# EAGLE library part SX1301 (library IC_Wireless-RF)
SX1301 - Digital Baseband Chip for outdoor LoRaWAN Datasheet <https://semtech.my.salesforce.com/sfc/p/#E0000000JelG/a/44000000MDnR/Et1KWLCuNDI6MDagfSPAvqqp.Y869Flgs1LleWyfjDY> Product Page <https://www.semtech.com/products/wireless-rf/lora-core/sx1301>
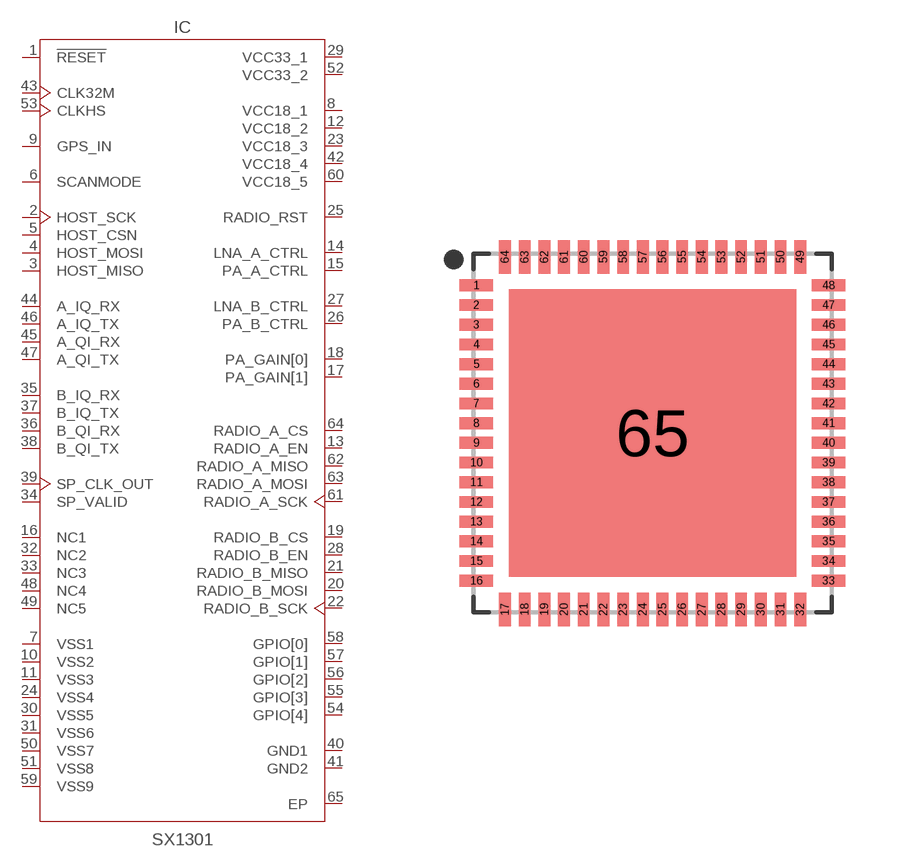
[diagram p0: symbol with the pads of QFN50P900X900X100-65T730; footprint QFN50P900X900X100-65T730]

Designator prefix IC

## SX1301IMLTRC (CATEGORY: IC_Wireless-RF; DESCRIPTION: IC DIGITAL BASEBAND LORA; FREQUENCY: 868MHz; MANUFACTURER: Semtech; MPN: SX1301IMLTRC; OPERATING_TEMP: -40°C to 85°C; PART_STATUS: Active; SERIES: SX1301; SUB-CATEGORY: Transceiver; TYPE: LoRa Core™; VALUE: SX1301), SX1301IMLTRT (CATEGORY: IC_Wireless-RF; DESCRIPTION: IC DIGITAL BASEBAND LORA; FREQUENCY: 868MHz; MANUFACTURER: Semtech; MPN: SX1301IMLTRT; OPERATING_TEMP: -40°C to 85°C; PART_STATUS: Active; SERIES: SX1301; SUB-CATEGORY: Transceiver; TYPE: LoRa Core™; VALUE: SX1301)  [QFN50P900X900X100-65T730]
1  !RESET!  in
2  HOST_SCK  in
3  HOST_MISO  out
4  HOST_MOSI  in
5  HOST_CSN  in
6  SCANMODE  in
7  VSS1  pwr
8  VCC18_1  pwr
9  GPS_IN  in
10  VSS2  pwr
11  VSS3  pwr
12  VCC18_2  pwr
13  RADIO_A_EN  out
14  LNA_A_CTRL  out
15  PA_A_CTRL  out
16  NC1  in
17  PA_GAIN[1]  out
18  PA_GAIN[0]  out
19  RADIO_B_CS  out
20  RADIO_B_MOSI  out
21  RADIO_B_MISO  in
22  RADIO_B_SCK  out
23  VCC18_3  pwr
24  VSS4  pwr
25  RADIO_RST  out
26  PA_B_CTRL  out
27  LNA_B_CTRL  out
28  RADIO_B_EN  out
29  VCC33_1  pwr
30  VSS5  pwr
31  VSS6  pwr
32  NC2  in
33  NC3  in
34  SP_VALID  in
35  B_IQ_RX  in
36  B_QI_RX  in
37  B_IQ_TX  out
38  B_QI_TX  out
39  SP_CLK_OUT  out
40  GND1  pwr
41  GND2  pwr
42  VCC18_4  pwr
43  CLK32M  in
44  A_IQ_RX  in
45  A_QI_RX  in
46  A_IQ_TX  out
47  A_QI_TX  out
48  NC4  in
49  NC5  in
50  VSS7  pwr
51  VSS8  pwr
52  VCC33_2  pwr
53  CLKHS  in
54  GPIO[4]
55  GPIO[3]
56  GPIO[2]
57  GPIO[1]
58  GPIO[0]
59  VSS9  pwr
60  VCC18_5  pwr
61  RADIO_A_SCK  out
62  RADIO_A_MISO  in
63  RADIO_A_MOSI  out
64  RADIO_A_CS  out
65  EP  pwr

## Footprint QFN50P900X900X100-65T730 (pad centres in mm)
64-QFN, 0.50 mm pitch, 9.00 X 9.00 X 1.00 mm body, 7.30 X 7.30 mm thermal pad 64-pin QFN package with 0.50 mm pitch with body size 9.00 X 9.00 X 1.00 mm and thermal pad size 7.30 X 7.30 mm
smd 0.85 x 0.3: 1 -4.475,3.75; 2 -4.475,3.25; 3 -4.475,2.75; 4 -4.475,2.25; 5 -4.475,1.75; 6 -4.475,1.25; 7 -4.475,0.75; 8 -4.475,0.25; 9 -4.475,-0.25; 10 -4.475,-0.75; 11 -4.475,-1.25; 12 -4.475,-1.75; 13 -4.475,-2.25; 14 -4.475,-2.75; 15 -4.475,-3.25; 16 -4.475,-3.75; 33 4.475,-3.75; 34 4.475,-3.25; 35 4.475,-2.75; 36 4.475,-2.25; 37 4.475,-1.75; 38 4.475,-1.25; 39 4.475,-0.75; 40 4.475,-0.25; 41 4.475,0.25; 42 4.475,0.75; 43 4.475,1.25; 44 4.475,1.75; 45 4.475,2.25; 46 4.475,2.75; 47 4.475,3.25; 48 4.475,3.75
smd 0.3 x 0.85: 17 -3.75,-4.475; 18 -3.25,-4.475; 19 -2.75,-4.475; 20 -2.25,-4.475; 21 -1.75,-4.475; 22 -1.25,-4.475; 23 -0.75,-4.475; 24 -0.25,-4.475; 25 0.25,-4.475; 26 0.75,-4.475; 27 1.25,-4.475; 28 1.75,-4.475; 29 2.25,-4.475; 30 2.75,-4.475; 31 3.25,-4.475; 32 3.75,-4.475; 49 3.75,4.475; 50 3.25,4.475; 51 2.75,4.475; 52 2.25,4.475; 53 1.75,4.475; 54 1.25,4.475; 55 0.75,4.475; 56 0.25,4.475; 57 -0.25,4.475; 58 -0.75,4.475; 59 -1.25,4.475; 60 -1.75,4.475; 61 -2.25,4.475; 62 -2.75,4.475; 63 -3.25,4.475; 64 -3.75,4.475
smd 7.3 x 7.3: 65 0,0